# EAGLE library part 653107124022 (library Wire-to-Board (rev18a))
WR-WTB 1.25mm SMT Male Vertical Shrouded Header, 7 Pins=>Code : Con_WTB_1.25_PCB_SMT_653107124022 <http://katalog.we-online.de/media/thumbs2/eican/thb_Con_WTB_1.25_PCB_SMT_6530xx124022_pf2.psd.jpg> Details see: http://katalog.we-online.de/en/em/WTB_1_25_SMT_MALE_VERTICAL_SHROUDED_HEADER_6531XX124022 Created 2014-06-06, Karrer Zheng 2014 (C) Würth Elektronik
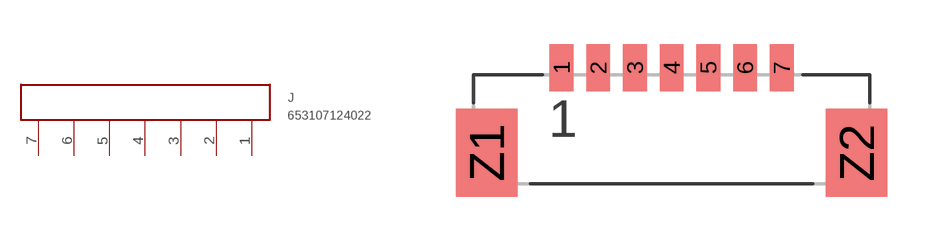
[diagram p54: symbol with the pads of 653107124022; footprint 653107124022]

Designator prefix J

## 653107124022  [653107124022]
1  7  pas
2  6  pas
3  5  pas
4  4  pas
5  3  pas
6  2  pas
7  1  pas

## Footprint 653107124022 (pad centres in mm)
WR-WTB 1.25mm SMT Male Vertical Shrouded Header, 7 Pins
smd 0.81 x 1.6: 1 -3.75,0; 2 -2.5,0; 3 -1.25,0; 4 0,0; 5 1.25,0; 6 2.5,0; 7 3.75,0
smd 2.1 x 3: Z1 -6.3,-2.9; Z2 6.3,-2.9